# Altium schematic symbol library CRCW0805360KFKEA.SchLib: 1 symbol
Pins are listed as number, name and electrical type; pins without a type are passive.

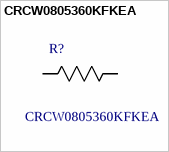
[diagram p0: symbol CRCW0805360KFKEA]

## CRCW0805360KFKEA
designator R?
Surface Mount Thick Film Resistor, AEC-Q200 CRCW Series, 360 kohm, 125 mW, - 1%, 150 V; MF: Vishay Dale; Package: 0805 Vishay; MP: CRCW0805360KFKEA; Price: 0.03 USD; Availability: Good; SnapEDA_Link: https://www.snapeda.com/parts/CRCW0805360KFKEA/Vishay%20Dale/view-part/?ref=snap; Value: *
footprint RESC2013X65N
pins: 1, 2